# Altium schematic symbol library LT1931AES5.SchLib: 1 symbol
Pins are listed as number, name and electrical type; pins without a type are passive.

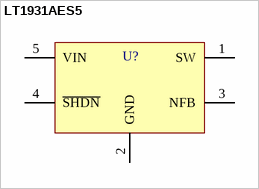
[diagram p0: symbol LT1931AES5]

## LT1931AES5
designator U?
MF: Analog Devices; MP: LT1931AES5#TRPBF; Package: SOT-5 Analog Devices; Check_prices: https://www.snapeda.com/parts/LT1931AES5%23TRPBF/Analog+Devices/view-part/?ref=eda; Availability: In Stock; Value: *; Purchase-URL: https://pricing.snapeda.com/search/part/LT1931AES5#TRPBF/?ref=eda; Price: None; SnapEDA_Link: https://www.snapeda.com/parts/LT1931AES5%23TRPBF/Analog+Devices/view-part/?ref=snap
footprint SOT95P280X100-5N
pins: 1 SW, 2 GND, 3 NFB, 4 ~{SHDN}, 5 VIN (power)